# Altium integrated library NE555PW.IntLib: 1 symbol
Pins are listed as number, name and electrical type; pins without a type are passive.

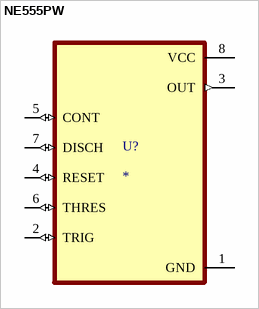
[diagram p0: symbol NE555PW]

## NE555PW
designator U?
Single Precision Timer 8-TSSOP 0 to 70; MP: NE555PW; MF: Texas Instruments; Purchase-URL: https://pricing.snapeda.com/search/part/NE555PW/?ref=eda; Package: TSSOP-8 Texas Instruments; Value: *; SnapEDA_Link: https://www.snapeda.com/parts/NE555PW/Texas+Instruments/view-part/?ref=snap; Availability: In Stock; Price: None; Check_prices: https://www.snapeda.com/parts/NE555PW/Texas+Instruments/view-part/?ref=eda
footprint SOP65P640X120-8N
pins: 1 GND (power), 2 TRIG (io), 3 OUT (out), 4 RESET (io), 5 CONT (io), 6 THRES (io), 7 DISCH (io), 8 VCC (power)